# Altium integrated library TI Data Converters Digital to Analog Converter.IntLib: 1533 symbols (part 86 of 99)
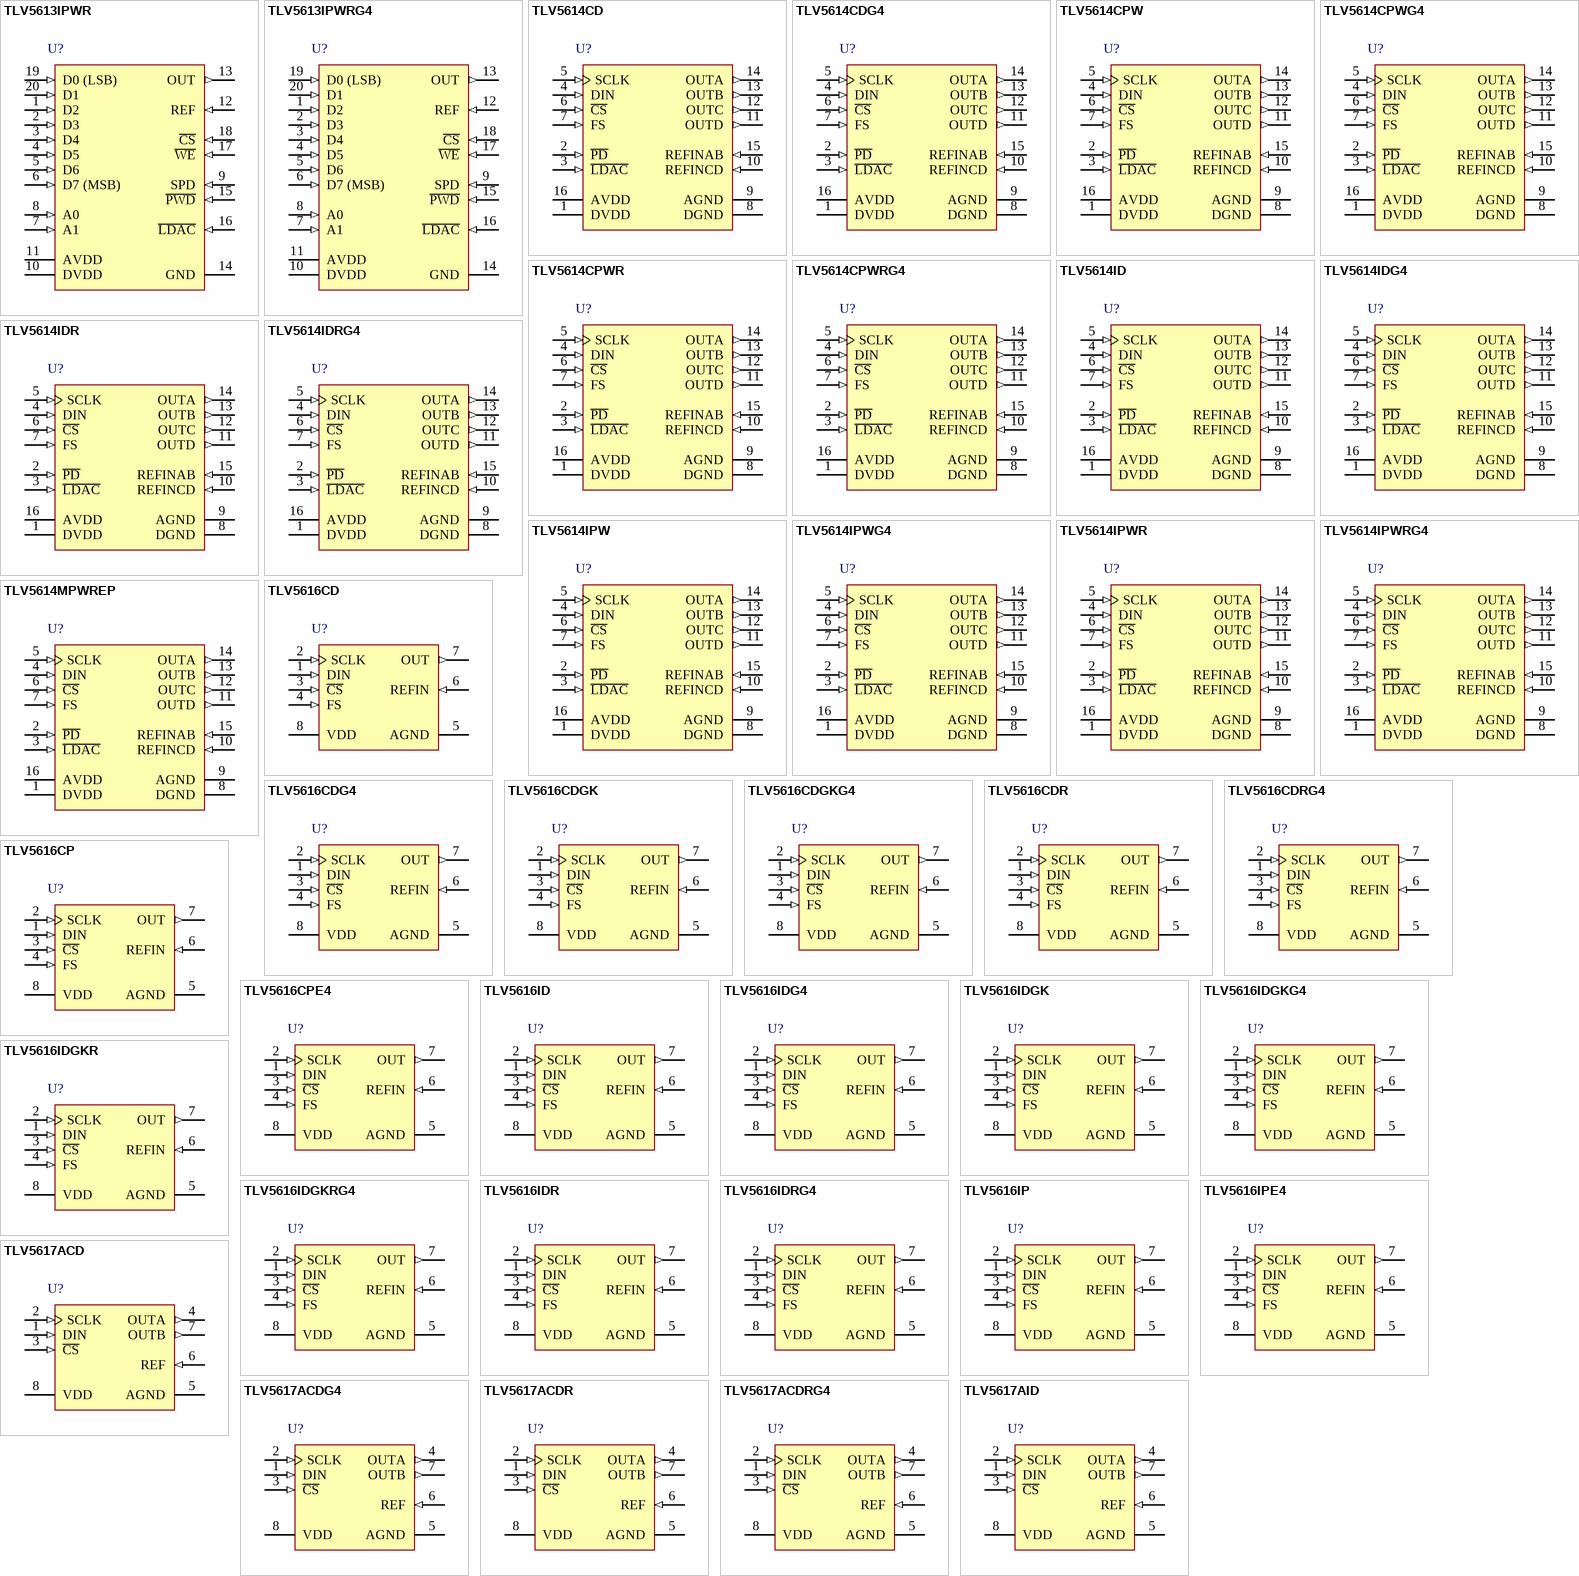
[diagram p158: symbols TLV5613IPWR to TLV5617AID]

## TLV5614CD
designator U?
12-Bit, 3 us Quad DAC, Serial Input, Programmable Settling Time, Low Power, Hardware or Software Power Down, 0 to 70 degC, 16-pin SOIC (D16), Green (RoHS & no Sb/Br); Manufacturer: Texas Instruments; PartNumber: TLV5614CD; DAC Channels: 4; DNL(Max)(+/-LSB): 1; Interface: Serial SPI; Power Consumption(Typ)(mW): 3.6; Resolution(Bits): 12; Settling Time(us): 3; SFDR(dB): 70; SNR(dB): 74; SubFamily: Precision DAC (=<10MSPS); DatasheetVersion: SLAS188B; PackageVersion: 4040047-6/M, 06/2011; PackageReference: D16; PackageDescription: 16-Pin Plastic Small Outline, Body 9.9 x 3.9 mm, Pitch 1.27 mm; Supplier 1: Digi-Key; Supplier Part Number 1: 296-2300-5-ND; Supplier 2: Farnell; Supplier Part Number 2: 8455627; Supplier 3: Newark; Supplier Part Number 3: 38K8478; Supplier 4: Newark; Supplier Part Number 4: 25C7295; Supplier 5: Mouser; Supplier Part Number 5: 595-TLV5614CD; Eco-Plan: Green (RoHS & no Sb/Br); INL(Max)(+/-LSB): 4; Mounting Technology: Surface Mount; Code_JEDEC: MS-012; ComponentLink1Description: Manufacturer URL; ComponentLink1URL: http://www.ti.com/; ComponentLink2Description: Datasheet; ComponentLink2URL: http://www.ti.com/general/docs/lit/getliterature.tsp?genericPartNumber=TLV5614&fileType=pdf; ComponentLink3Description: Package Specification; ComponentLink3URL: http://www.ti.com/litv/pdf/mpds178g
footprint TI-D16_N (SOIC, 16-Leads, Body 9.9x3.9mm, Pitch 1.27mm, IPC Medium Density)
footprint TI-D16_L (SOIC, 16-Leads, Body 9.9x3.9mm, Pitch 1.27mm, IPC High Density)
footprint TI-D16_M (SOIC, 16-Leads, Body 9.9x3.9mm, Pitch 1.27mm, IPC Low Density)
pins: 1 DVDD (power) "Digital supply", 2 ~{PD} (in) "Power-down pin. Powers down all DACs (overriding the individual power down settings), and all output stages. This terminal is active low.", 3 ~{LDAC} (in) "Load DAC. When the L\D\A\C\ signal is high, no DAC output updates occur when the input digital data is read into the serial interface. The DAC outputs are only updated when L\D\A\C\ is low.", 4 DIN (in) "Serial data input", 5 SCLK (in) "Serial clock inputinput", 6 ~{CS} (in) "Chip select. This terminal is active low.", 7 FS (in) "Frame sync input. The falling edge of the frame sync pulse indicates the start of a serial data frame shifted out to the TLV5614", 8 DGND (power) "Digital ground", 9 AGND (power) "Analog ground", 10 REFINCD (in) "Voltage reference input for DACs C and D.", 11 OUTD (out) "DACD output", 12 OUTC (out) "DACC output", 13 OUTB (out) "DACB output", 14 OUTA (out) "DACA output", 15 REFINAB (in) "Voltage reference input for DACs A and B.", 16 AVDD (power) "Analog supply"

## TLV5614CDG4
designator U?
12-Bit, 3 us Quad DAC, Serial Input, Programmable Settling Time, Low Power, Hardware or Software Power Down, 0 to 70 degC, 16-pin SOIC (D16), Green (RoHS & no Sb/Br); Manufacturer: Texas Instruments; PartNumber: TLV5614CDG4; DAC Channels: 4; DNL(Max)(+/-LSB): 1; Interface: Serial SPI; Power Consumption(Typ)(mW): 3.6; Resolution(Bits): 12; Settling Time(us): 3; SFDR(dB): 70; SNR(dB): 74; SubFamily: Precision DAC (=<10MSPS); DatasheetVersion: SLAS188B; PackageVersion: 4040047-6/M, 06/2011; PackageReference: D16; PackageDescription: 16-Pin Plastic Small Outline, Body 9.9 x 3.9 mm, Pitch 1.27 mm; Supplier 1: Digi-Key; Supplier Part Number 1: TLV5614CDG4-ND; Supplier 2: Mouser; Supplier Part Number 2: 595-TLV5614CDG4; Eco-Plan: Green (RoHS & no Sb/Br); INL(Max)(+/-LSB): 4; Mounting Technology: Surface Mount; Code_JEDEC: MS-012; ComponentLink1Description: Manufacturer URL; ComponentLink1URL: http://www.ti.com/; ComponentLink2Description: Datasheet; ComponentLink2URL: http://www.ti.com/general/docs/lit/getliterature.tsp?genericPartNumber=TLV5614&fileType=pdf; ComponentLink3Description: Package Specification; ComponentLink3URL: http://www.ti.com/litv/pdf/mpds178g
footprint TI-D16_N (SOIC, 16-Leads, Body 9.9x3.9mm, Pitch 1.27mm, IPC Medium Density)
footprint TI-D16_L (SOIC, 16-Leads, Body 9.9x3.9mm, Pitch 1.27mm, IPC High Density)
footprint TI-D16_M (SOIC, 16-Leads, Body 9.9x3.9mm, Pitch 1.27mm, IPC Low Density)
pins: 1 DVDD (power) "Digital supply", 2 ~{PD} (in) "Power-down pin. Powers down all DACs (overriding the individual power down settings), and all output stages. This terminal is active low.", 3 ~{LDAC} (in) "Load DAC. When the L\D\A\C\ signal is high, no DAC output updates occur when the input digital data is read into the serial interface. The DAC outputs are only updated when L\D\A\C\ is low.", 4 DIN (in) "Serial data input", 5 SCLK (in) "Serial clock inputinput", 6 ~{CS} (in) "Chip select. This terminal is active low.", 7 FS (in) "Frame sync input. The falling edge of the frame sync pulse indicates the start of a serial data frame shifted out to the TLV5614", 8 DGND (power) "Digital ground", 9 AGND (power) "Analog ground", 10 REFINCD (in) "Voltage reference input for DACs C and D.", 11 OUTD (out) "DACD output", 12 OUTC (out) "DACC output", 13 OUTB (out) "DACB output", 14 OUTA (out) "DACA output", 15 REFINAB (in) "Voltage reference input for DACs A and B.", 16 AVDD (power) "Analog supply"

## TLV5614CPW
designator U?
12-Bit, 3 us Quad DAC, Serial Input, Programmable Settling Time, Low Power, Hardware or Software Power Down, 0 to 70 degC, 16-pin SOP (PW16), Green (RoHS & no Sb/Br); Manufacturer: Texas Instruments; PartNumber: TLV5614CPW; DAC Channels: 4; DNL(Max)(+/-LSB): 1; Interface: Serial SPI; Power Consumption(Typ)(mW): 3.6; Resolution(Bits): 12; Settling Time(us): 3; SFDR(dB): 70; SNR(dB): 74; SubFamily: Precision DAC (=<10MSPS); DatasheetVersion: SLAS188B; PackageVersion: 4040064-4/G, 02/2011; PackageReference: PW16; PackageDescription: 16-Pin Plastic Small Outline, Body 5 x 4.4 mm, Pitch 0.65 mm; Supplier 1: Digi-Key; Supplier Part Number 1: 296-3040-5-ND; Supplier 2: Newark; Supplier Part Number 2: 76C8900; Supplier 3: Mouser; Supplier Part Number 3: 595-TLV5614CPW; Eco-Plan: Green (RoHS & no Sb/Br); INL(Max)(+/-LSB): 4; Mounting Technology: Surface Mount; Code_JEDEC: MO-153; ComponentLink1Description: Manufacturer URL; ComponentLink1URL: http://www.ti.com/; ComponentLink2Description: Datasheet; ComponentLink2URL: http://www.ti.com/general/docs/lit/getliterature.tsp?genericPartNumber=TLV5614&fileType=pdf; ComponentLink3Description: Package Specification; ComponentLink3URL: http://www.ti.com/lit/ml/mpds361/mpds361.pdf
footprint TI-PW16_N (SOP, 16-Leads, Body 5x4.4mm, Pitch 0.65mm, IPC Medium Density)
footprint TI-PW16_L (SOP, 16-Leads, Body 5x4.4mm, Pitch 0.65mm, IPC High Density)
footprint TI-PW16_M (SOP, 16-Leads, Body 5x4.4mm, Pitch 0.65mm, IPC Low Density)
pins: 1 DVDD (power) "Digital supply", 2 ~{PD} (in) "Power-down pin. Powers down all DACs (overriding the individual power down settings), and all output stages. This terminal is active low.", 3 ~{LDAC} (in) "Load DAC. When the L\D\A\C\ signal is high, no DAC output updates occur when the input digital data is read into the serial interface. The DAC outputs are only updated when L\D\A\C\ is low.", 4 DIN (in) "Serial data input", 5 SCLK (in) "Serial clock inputinput", 6 ~{CS} (in) "Chip select. This terminal is active low.", 7 FS (in) "Frame sync input. The falling edge of the frame sync pulse indicates the start of a serial data frame shifted out to the TLV5614", 8 DGND (power) "Digital ground", 9 AGND (power) "Analog ground", 10 REFINCD (in) "Voltage reference input for DACs C and D.", 11 OUTD (out) "DACD output", 12 OUTC (out) "DACC output", 13 OUTB (out) "DACB output", 14 OUTA (out) "DACA output", 15 REFINAB (in) "Voltage reference input for DACs A and B.", 16 AVDD (power) "Analog supply"

## TLV5614CPWG4
designator U?
12-Bit, 3 us Quad DAC, Serial Input, Programmable Settling Time, Low Power, Hardware or Software Power Down, 0 to 70 degC, 16-pin SOP (PW16), Green (RoHS & no Sb/Br); Manufacturer: Texas Instruments; PartNumber: TLV5614CPWG4; DAC Channels: 4; DNL(Max)(+/-LSB): 1; Interface: Serial SPI; Power Consumption(Typ)(mW): 3.6; Resolution(Bits): 12; Settling Time(us): 3; SFDR(dB): 70; SNR(dB): 74; SubFamily: Precision DAC (=<10MSPS); DatasheetVersion: SLAS188B; PackageVersion: 4040064-4/G, 02/2011; PackageReference: PW16; PackageDescription: 16-Pin Plastic Small Outline, Body 5 x 4.4 mm, Pitch 0.65 mm; Supplier 1: Digi-Key; Supplier Part Number 1: TLV5614CPWG4-ND; Supplier 2: Mouser; Supplier Part Number 2: 595-TLV5614CPWG4; Eco-Plan: Green (RoHS & no Sb/Br); INL(Max)(+/-LSB): 4; Mounting Technology: Surface Mount; Code_JEDEC: MO-153; ComponentLink1Description: Manufacturer URL; ComponentLink1URL: http://www.ti.com/; ComponentLink2Description: Datasheet; ComponentLink2URL: http://www.ti.com/general/docs/lit/getliterature.tsp?genericPartNumber=TLV5614&fileType=pdf; ComponentLink3Description: Package Specification; ComponentLink3URL: http://www.ti.com/lit/ml/mpds361/mpds361.pdf
footprint TI-PW16_N (SOP, 16-Leads, Body 5x4.4mm, Pitch 0.65mm, IPC Medium Density)
footprint TI-PW16_L (SOP, 16-Leads, Body 5x4.4mm, Pitch 0.65mm, IPC High Density)
footprint TI-PW16_M (SOP, 16-Leads, Body 5x4.4mm, Pitch 0.65mm, IPC Low Density)
pins: 1 DVDD (power) "Digital supply", 2 ~{PD} (in) "Power-down pin. Powers down all DACs (overriding the individual power down settings), and all output stages. This terminal is active low.", 3 ~{LDAC} (in) "Load DAC. When the L\D\A\C\ signal is high, no DAC output updates occur when the input digital data is read into the serial interface. The DAC outputs are only updated when L\D\A\C\ is low.", 4 DIN (in) "Serial data input", 5 SCLK (in) "Serial clock inputinput", 6 ~{CS} (in) "Chip select. This terminal is active low.", 7 FS (in) "Frame sync input. The falling edge of the frame sync pulse indicates the start of a serial data frame shifted out to the TLV5614", 8 DGND (power) "Digital ground", 9 AGND (power) "Analog ground", 10 REFINCD (in) "Voltage reference input for DACs C and D.", 11 OUTD (out) "DACD output", 12 OUTC (out) "DACC output", 13 OUTB (out) "DACB output", 14 OUTA (out) "DACA output", 15 REFINAB (in) "Voltage reference input for DACs A and B.", 16 AVDD (power) "Analog supply"

## TLV5614CPWR
designator U?
12-Bit, 3 us Quad DAC, Serial Input, Programmable Settling Time, Low Power, Hardware or Software Power Down, 0 to 70 degC, 16-pin SOP (PW16), Green (RoHS & no Sb/Br); Manufacturer: Texas Instruments; PartNumber: TLV5614CPWR; DAC Channels: 4; DNL(Max)(+/-LSB): 1; Interface: Serial SPI; Power Consumption(Typ)(mW): 3.6; Resolution(Bits): 12; Settling Time(us): 3; SFDR(dB): 70; SNR(dB): 74; SubFamily: Precision DAC (=<10MSPS); DatasheetVersion: SLAS188B; PackageVersion: 4040064-4/G, 02/2011; PackageReference: PW16; PackageDescription: 16-Pin Plastic Small Outline, Body 5 x 4.4 mm, Pitch 0.65 mm; Supplier 1: Digi-Key; Supplier Part Number 1: TLV5614CPWR-ND; Supplier 2: Mouser; Supplier Part Number 2: 595-TLV5614CPWR; Eco-Plan: Green (RoHS & no Sb/Br); INL(Max)(+/-LSB): 4; Mounting Technology: Surface Mount; Code_JEDEC: MO-153; ComponentLink1Description: Manufacturer URL; ComponentLink1URL: http://www.ti.com/; ComponentLink2Description: Datasheet; ComponentLink2URL: http://www.ti.com/general/docs/lit/getliterature.tsp?genericPartNumber=TLV5614&fileType=pdf; ComponentLink3Description: Package Specification; ComponentLink3URL: http://www.ti.com/lit/ml/mpds361/mpds361.pdf
footprint TI-PW16_N (SOP, 16-Leads, Body 5x4.4mm, Pitch 0.65mm, IPC Medium Density)
footprint TI-PW16_L (SOP, 16-Leads, Body 5x4.4mm, Pitch 0.65mm, IPC High Density)
footprint TI-PW16_M (SOP, 16-Leads, Body 5x4.4mm, Pitch 0.65mm, IPC Low Density)
pins: 1 DVDD (power) "Digital supply", 2 ~{PD} (in) "Power-down pin. Powers down all DACs (overriding the individual power down settings), and all output stages. This terminal is active low.", 3 ~{LDAC} (in) "Load DAC. When the L\D\A\C\ signal is high, no DAC output updates occur when the input digital data is read into the serial interface. The DAC outputs are only updated when L\D\A\C\ is low.", 4 DIN (in) "Serial data input", 5 SCLK (in) "Serial clock inputinput", 6 ~{CS} (in) "Chip select. This terminal is active low.", 7 FS (in) "Frame sync input. The falling edge of the frame sync pulse indicates the start of a serial data frame shifted out to the TLV5614", 8 DGND (power) "Digital ground", 9 AGND (power) "Analog ground", 10 REFINCD (in) "Voltage reference input for DACs C and D.", 11 OUTD (out) "DACD output", 12 OUTC (out) "DACC output", 13 OUTB (out) "DACB output", 14 OUTA (out) "DACA output", 15 REFINAB (in) "Voltage reference input for DACs A and B.", 16 AVDD (power) "Analog supply"

## TLV5614CPWRG4
designator U?
12-Bit, 3 us Quad DAC, Serial Input, Programmable Settling Time, Low Power, Hardware or Software Power Down, 0 to 70 degC, 16-pin SOP (PW16), Green (RoHS & no Sb/Br); Manufacturer: Texas Instruments; PartNumber: TLV5614CPWRG4; DAC Channels: 4; DNL(Max)(+/-LSB): 1; Interface: Serial SPI; Power Consumption(Typ)(mW): 3.6; Resolution(Bits): 12; Settling Time(us): 3; SFDR(dB): 70; SNR(dB): 74; SubFamily: Precision DAC (=<10MSPS); DatasheetVersion: SLAS188B; PackageVersion: 4040064-4/G, 02/2011; PackageReference: PW16; PackageDescription: 16-Pin Plastic Small Outline, Body 5 x 4.4 mm, Pitch 0.65 mm; Supplier 1: Digi-Key; Supplier Part Number 1: TLV5614CPWRG4-ND; Supplier 2: Mouser; Supplier Part Number 2: 595-TLV5614CPWRG4; Eco-Plan: Green (RoHS & no Sb/Br); INL(Max)(+/-LSB): 4; Mounting Technology: Surface Mount; Code_JEDEC: MO-153; ComponentLink1Description: Manufacturer URL; ComponentLink1URL: http://www.ti.com/; ComponentLink2Description: Datasheet; ComponentLink2URL: http://www.ti.com/general/docs/lit/getliterature.tsp?genericPartNumber=TLV5614&fileType=pdf; ComponentLink3Description: Package Specification; ComponentLink3URL: http://www.ti.com/lit/ml/mpds361/mpds361.pdf
footprint TI-PW16_N (SOP, 16-Leads, Body 5x4.4mm, Pitch 0.65mm, IPC Medium Density)
footprint TI-PW16_L (SOP, 16-Leads, Body 5x4.4mm, Pitch 0.65mm, IPC High Density)
footprint TI-PW16_M (SOP, 16-Leads, Body 5x4.4mm, Pitch 0.65mm, IPC Low Density)
pins: 1 DVDD (power) "Digital supply", 2 ~{PD} (in) "Power-down pin. Powers down all DACs (overriding the individual power down settings), and all output stages. This terminal is active low.", 3 ~{LDAC} (in) "Load DAC. When the L\D\A\C\ signal is high, no DAC output updates occur when the input digital data is read into the serial interface. The DAC outputs are only updated when L\D\A\C\ is low.", 4 DIN (in) "Serial data input", 5 SCLK (in) "Serial clock inputinput", 6 ~{CS} (in) "Chip select. This terminal is active low.", 7 FS (in) "Frame sync input. The falling edge of the frame sync pulse indicates the start of a serial data frame shifted out to the TLV5614", 8 DGND (power) "Digital ground", 9 AGND (power) "Analog ground", 10 REFINCD (in) "Voltage reference input for DACs C and D.", 11 OUTD (out) "DACD output", 12 OUTC (out) "DACC output", 13 OUTB (out) "DACB output", 14 OUTA (out) "DACA output", 15 REFINAB (in) "Voltage reference input for DACs A and B.", 16 AVDD (power) "Analog supply"

## TLV5614ID
designator U?
12-Bit, 3 us Quad DAC, Serial Input, Programmable Settling Time, Low Power, Hardware or Software Power Down, -40 to 85 degC, 16-pin SOIC (D16), Green (RoHS & no Sb/Br); Manufacturer: Texas Instruments; PartNumber: TLV5614ID; DAC Channels: 4; DNL(Max)(+/-LSB): 1; Interface: Serial SPI; Power Consumption(Typ)(mW): 3.6; Resolution(Bits): 12; Settling Time(us): 3; SFDR(dB): 70; SNR(dB): 74; SubFamily: Precision DAC (=<10MSPS); DatasheetVersion: SLAS188B; PackageVersion: 4040047-6/M, 06/2011; PackageReference: D16; PackageDescription: 16-Pin Plastic Small Outline, Body 9.9 x 3.9 mm, Pitch 1.27 mm; Supplier 1: Digi-Key; Supplier Part Number 1: 296-1921-5-ND; Supplier 2: Newark; Supplier Part Number 2: 96B3617; Supplier 3: Mouser; Supplier Part Number 3: 595-TLV5614ID; Eco-Plan: Green (RoHS & no Sb/Br); INL(Max)(+/-LSB): 4; Mounting Technology: Surface Mount; Code_JEDEC: MS-012; ComponentLink1Description: Manufacturer URL; ComponentLink1URL: http://www.ti.com/; ComponentLink2Description: Datasheet; ComponentLink2URL: http://www.ti.com/general/docs/lit/getliterature.tsp?genericPartNumber=TLV5614&fileType=pdf; ComponentLink3Description: Package Specification; ComponentLink3URL: http://www.ti.com/litv/pdf/mpds178g
footprint TI-D16_N (SOIC, 16-Leads, Body 9.9x3.9mm, Pitch 1.27mm, IPC Medium Density)
footprint TI-D16_L (SOIC, 16-Leads, Body 9.9x3.9mm, Pitch 1.27mm, IPC High Density)
footprint TI-D16_M (SOIC, 16-Leads, Body 9.9x3.9mm, Pitch 1.27mm, IPC Low Density)
pins: 1 DVDD (power) "Digital supply", 2 ~{PD} (in) "Power-down pin. Powers down all DACs (overriding the individual power down settings), and all output stages. This terminal is active low.", 3 ~{LDAC} (in) "Load DAC. When the L\D\A\C\ signal is high, no DAC output updates occur when the input digital data is read into the serial interface. The DAC outputs are only updated when L\D\A\C\ is low.", 4 DIN (in) "Serial data input", 5 SCLK (in) "Serial clock inputinput", 6 ~{CS} (in) "Chip select. This terminal is active low.", 7 FS (in) "Frame sync input. The falling edge of the frame sync pulse indicates the start of a serial data frame shifted out to the TLV5614", 8 DGND (power) "Digital ground", 9 AGND (power) "Analog ground", 10 REFINCD (in) "Voltage reference input for DACs C and D.", 11 OUTD (out) "DACD output", 12 OUTC (out) "DACC output", 13 OUTB (out) "DACB output", 14 OUTA (out) "DACA output", 15 REFINAB (in) "Voltage reference input for DACs A and B.", 16 AVDD (power) "Analog supply"

## TLV5614IDG4
designator U?
12-Bit, 3 us Quad DAC, Serial Input, Programmable Settling Time, Low Power, Hardware or Software Power Down, -40 to 85 degC, 16-pin SOIC (D16), Green (RoHS & no Sb/Br); Manufacturer: Texas Instruments; PartNumber: TLV5614IDG4; DAC Channels: 4; DNL(Max)(+/-LSB): 1; Interface: Serial SPI; Power Consumption(Typ)(mW): 3.6; Resolution(Bits): 12; Settling Time(us): 3; SFDR(dB): 70; SNR(dB): 74; SubFamily: Precision DAC (=<10MSPS); DatasheetVersion: SLAS188B; PackageVersion: 4040047-6/M, 06/2011; PackageReference: D16; PackageDescription: 16-Pin Plastic Small Outline, Body 9.9 x 3.9 mm, Pitch 1.27 mm; Supplier 1: Digi-Key; Supplier Part Number 1: TLV5614IDG4-ND; Supplier 2: Mouser; Supplier Part Number 2: 595-TLV5614IDG4; Eco-Plan: Green (RoHS & no Sb/Br); INL(Max)(+/-LSB): 4; Mounting Technology: Surface Mount; Code_JEDEC: MS-012; ComponentLink1Description: Manufacturer URL; ComponentLink1URL: http://www.ti.com/; ComponentLink2Description: Datasheet; ComponentLink2URL: http://www.ti.com/general/docs/lit/getliterature.tsp?genericPartNumber=TLV5614&fileType=pdf; ComponentLink3Description: Package Specification; ComponentLink3URL: http://www.ti.com/litv/pdf/mpds178g
footprint TI-D16_N (SOIC, 16-Leads, Body 9.9x3.9mm, Pitch 1.27mm, IPC Medium Density)
footprint TI-D16_L (SOIC, 16-Leads, Body 9.9x3.9mm, Pitch 1.27mm, IPC High Density)
footprint TI-D16_M (SOIC, 16-Leads, Body 9.9x3.9mm, Pitch 1.27mm, IPC Low Density)
pins: 1 DVDD (power) "Digital supply", 2 ~{PD} (in) "Power-down pin. Powers down all DACs (overriding the individual power down settings), and all output stages. This terminal is active low.", 3 ~{LDAC} (in) "Load DAC. When the L\D\A\C\ signal is high, no DAC output updates occur when the input digital data is read into the serial interface. The DAC outputs are only updated when L\D\A\C\ is low.", 4 DIN (in) "Serial data input", 5 SCLK (in) "Serial clock inputinput", 6 ~{CS} (in) "Chip select. This terminal is active low.", 7 FS (in) "Frame sync input. The falling edge of the frame sync pulse indicates the start of a serial data frame shifted out to the TLV5614", 8 DGND (power) "Digital ground", 9 AGND (power) "Analog ground", 10 REFINCD (in) "Voltage reference input for DACs C and D.", 11 OUTD (out) "DACD output", 12 OUTC (out) "DACC output", 13 OUTB (out) "DACB output", 14 OUTA (out) "DACA output", 15 REFINAB (in) "Voltage reference input for DACs A and B.", 16 AVDD (power) "Analog supply"

## TLV5614IDR
designator U?
12-Bit, 3 us Quad DAC, Serial Input, Programmable Settling Time, Low Power, Hardware or Software Power Down, -40 to 85 degC, 16-pin SOIC (D16), Green (RoHS & no Sb/Br); Manufacturer: Texas Instruments; PartNumber: TLV5614IDR; DAC Channels: 4; DNL(Max)(+/-LSB): 1; Interface: Serial SPI; Power Consumption(Typ)(mW): 3.6; Resolution(Bits): 12; Settling Time(us): 3; SFDR(dB): 70; SNR(dB): 74; SubFamily: Precision DAC (=<10MSPS); DatasheetVersion: SLAS188B; PackageVersion: 4040047-6/M, 06/2011; PackageReference: D16; PackageDescription: 16-Pin Plastic Small Outline, Body 9.9 x 3.9 mm, Pitch 1.27 mm; Supplier 1: Digi-Key; Supplier Part Number 1: TLV5614IDR-ND; Supplier 2: Mouser; Supplier Part Number 2: 595-TLV5614IDR; Eco-Plan: Green (RoHS & no Sb/Br); INL(Max)(+/-LSB): 4; Mounting Technology: Surface Mount; Code_JEDEC: MS-012; ComponentLink1Description: Manufacturer URL; ComponentLink1URL: http://www.ti.com/; ComponentLink2Description: Datasheet; ComponentLink2URL: http://www.ti.com/general/docs/lit/getliterature.tsp?genericPartNumber=TLV5614&fileType=pdf; ComponentLink3Description: Package Specification; ComponentLink3URL: http://www.ti.com/litv/pdf/mpds178g
footprint TI-D16_N (SOIC, 16-Leads, Body 9.9x3.9mm, Pitch 1.27mm, IPC Medium Density)
footprint TI-D16_L (SOIC, 16-Leads, Body 9.9x3.9mm, Pitch 1.27mm, IPC High Density)
footprint TI-D16_M (SOIC, 16-Leads, Body 9.9x3.9mm, Pitch 1.27mm, IPC Low Density)
pins: 1 DVDD (power) "Digital supply", 2 ~{PD} (in) "Power-down pin. Powers down all DACs (overriding the individual power down settings), and all output stages. This terminal is active low.", 3 ~{LDAC} (in) "Load DAC. When the L\D\A\C\ signal is high, no DAC output updates occur when the input digital data is read into the serial interface. The DAC outputs are only updated when L\D\A\C\ is low.", 4 DIN (in) "Serial data input", 5 SCLK (in) "Serial clock inputinput", 6 ~{CS} (in) "Chip select. This terminal is active low.", 7 FS (in) "Frame sync input. The falling edge of the frame sync pulse indicates the start of a serial data frame shifted out to the TLV5614", 8 DGND (power) "Digital ground", 9 AGND (power) "Analog ground", 10 REFINCD (in) "Voltage reference input for DACs C and D.", 11 OUTD (out) "DACD output", 12 OUTC (out) "DACC output", 13 OUTB (out) "DACB output", 14 OUTA (out) "DACA output", 15 REFINAB (in) "Voltage reference input for DACs A and B.", 16 AVDD (power) "Analog supply"

## TLV5614IDRG4
designator U?
12-Bit, 3 us Quad DAC, Serial Input, Programmable Settling Time, Low Power, Hardware or Software Power Down, -40 to 85 degC, 16-pin SOIC (D16), Green (RoHS & no Sb/Br); Manufacturer: Texas Instruments; PartNumber: TLV5614IDRG4; DAC Channels: 4; DNL(Max)(+/-LSB): 1; Interface: Serial SPI; Power Consumption(Typ)(mW): 3.6; Resolution(Bits): 12; Settling Time(us): 3; SFDR(dB): 70; SNR(dB): 74; SubFamily: Precision DAC (=<10MSPS); DatasheetVersion: SLAS188B; PackageVersion: 4040047-6/M, 06/2011; PackageReference: D16; PackageDescription: 16-Pin Plastic Small Outline, Body 9.9 x 3.9 mm, Pitch 1.27 mm; Supplier 1: Digi-Key; Supplier Part Number 1: TLV5614IDRG4-ND; Supplier 2: Mouser; Supplier Part Number 2: 595-TLV5614IDRG4; Eco-Plan: Green (RoHS & no Sb/Br); INL(Max)(+/-LSB): 4; Mounting Technology: Surface Mount; Code_JEDEC: MS-012; ComponentLink1Description: Manufacturer URL; ComponentLink1URL: http://www.ti.com/; ComponentLink2Description: Datasheet; ComponentLink2URL: http://www.ti.com/general/docs/lit/getliterature.tsp?genericPartNumber=TLV5614&fileType=pdf; ComponentLink3Description: Package Specification; ComponentLink3URL: http://www.ti.com/litv/pdf/mpds178g
footprint TI-D16_N (SOIC, 16-Leads, Body 9.9x3.9mm, Pitch 1.27mm, IPC Medium Density)
footprint TI-D16_L (SOIC, 16-Leads, Body 9.9x3.9mm, Pitch 1.27mm, IPC High Density)
footprint TI-D16_M (SOIC, 16-Leads, Body 9.9x3.9mm, Pitch 1.27mm, IPC Low Density)
pins: 1 DVDD (power) "Digital supply", 2 ~{PD} (in) "Power-down pin. Powers down all DACs (overriding the individual power down settings), and all output stages. This terminal is active low.", 3 ~{LDAC} (in) "Load DAC. When the L\D\A\C\ signal is high, no DAC output updates occur when the input digital data is read into the serial interface. The DAC outputs are only updated when L\D\A\C\ is low.", 4 DIN (in) "Serial data input", 5 SCLK (in) "Serial clock inputinput", 6 ~{CS} (in) "Chip select. This terminal is active low.", 7 FS (in) "Frame sync input. The falling edge of the frame sync pulse indicates the start of a serial data frame shifted out to the TLV5614", 8 DGND (power) "Digital ground", 9 AGND (power) "Analog ground", 10 REFINCD (in) "Voltage reference input for DACs C and D.", 11 OUTD (out) "DACD output", 12 OUTC (out) "DACC output", 13 OUTB (out) "DACB output", 14 OUTA (out) "DACA output", 15 REFINAB (in) "Voltage reference input for DACs A and B.", 16 AVDD (power) "Analog supply"

## TLV5614IPW
designator U?
12-Bit, 3 us Quad DAC, Serial Input, Programmable Settling Time, Low Power, Hardware or Software Power Down, -40 to 85 degC, 16-pin SOP (PW16), Green (RoHS & no Sb/Br); Manufacturer: Texas Instruments; PartNumber: TLV5614IPW; DAC Channels: 4; DNL(Max)(+/-LSB): 1; Interface: Serial SPI; Power Consumption(Typ)(mW): 3.6; Resolution(Bits): 12; Settling Time(us): 3; SFDR(dB): 70; SNR(dB): 74; SubFamily: Precision DAC (=<10MSPS); DatasheetVersion: SLAS188B; PackageVersion: 4040064-4/G, 02/2011; PackageReference: PW16; PackageDescription: 16-Pin Plastic Small Outline, Body 5 x 4.4 mm, Pitch 0.65 mm; Supplier 1: Digi-Key; Supplier Part Number 1: 296-1922-5-ND; Supplier 2: Farnell; Supplier Part Number 2: 4613806; Supplier 3: Newark; Supplier Part Number 3: 96B3618; Supplier 4: Mouser; Supplier Part Number 4: 595-TLV5614IPW; Eco-Plan: Green (RoHS & no Sb/Br); INL(Max)(+/-LSB): 4; Mounting Technology: Surface Mount; Code_JEDEC: MO-153; ComponentLink1Description: Manufacturer URL; ComponentLink1URL: http://www.ti.com/; ComponentLink2Description: Datasheet; ComponentLink2URL: http://www.ti.com/general/docs/lit/getliterature.tsp?genericPartNumber=TLV5614&fileType=pdf; ComponentLink3Description: Package Specification; ComponentLink3URL: http://www.ti.com/lit/ml/mpds361/mpds361.pdf
footprint TI-PW16_N (SOP, 16-Leads, Body 5x4.4mm, Pitch 0.65mm, IPC Medium Density)
footprint TI-PW16_L (SOP, 16-Leads, Body 5x4.4mm, Pitch 0.65mm, IPC High Density)
footprint TI-PW16_M (SOP, 16-Leads, Body 5x4.4mm, Pitch 0.65mm, IPC Low Density)
pins: 1 DVDD (power) "Digital supply", 2 ~{PD} (in) "Power-down pin. Powers down all DACs (overriding the individual power down settings), and all output stages. This terminal is active low.", 3 ~{LDAC} (in) "Load DAC. When the L\D\A\C\ signal is high, no DAC output updates occur when the input digital data is read into the serial interface. The DAC outputs are only updated when L\D\A\C\ is low.", 4 DIN (in) "Serial data input", 5 SCLK (in) "Serial clock inputinput", 6 ~{CS} (in) "Chip select. This terminal is active low.", 7 FS (in) "Frame sync input. The falling edge of the frame sync pulse indicates the start of a serial data frame shifted out to the TLV5614", 8 DGND (power) "Digital ground", 9 AGND (power) "Analog ground", 10 REFINCD (in) "Voltage reference input for DACs C and D.", 11 OUTD (out) "DACD output", 12 OUTC (out) "DACC output", 13 OUTB (out) "DACB output", 14 OUTA (out) "DACA output", 15 REFINAB (in) "Voltage reference input for DACs A and B.", 16 AVDD (power) "Analog supply"

## TLV5614IPWG4
designator U?
12-Bit, 3 us Quad DAC, Serial Input, Programmable Settling Time, Low Power, Hardware or Software Power Down, -40 to 85 degC, 16-pin SOP (PW16), Green (RoHS & no Sb/Br); Manufacturer: Texas Instruments; PartNumber: TLV5614IPWG4; DAC Channels: 4; DNL(Max)(+/-LSB): 1; Interface: Serial SPI; Power Consumption(Typ)(mW): 3.6; Resolution(Bits): 12; Settling Time(us): 3; SFDR(dB): 70; SNR(dB): 74; SubFamily: Precision DAC (=<10MSPS); DatasheetVersion: SLAS188B; PackageVersion: 4040064-4/G, 02/2011; PackageReference: PW16; PackageDescription: 16-Pin Plastic Small Outline, Body 5 x 4.4 mm, Pitch 0.65 mm; Supplier 1: Digi-Key; Supplier Part Number 1: TLV5614IPWG4-ND; Supplier 2: Newark; Supplier Part Number 2: 61K1816; Supplier 3: Mouser; Supplier Part Number 3: 595-TLV5614IPWG4; Eco-Plan: Green (RoHS & no Sb/Br); INL(Max)(+/-LSB): 4; Mounting Technology: Surface Mount; Code_JEDEC: MO-153; ComponentLink1Description: Manufacturer URL; ComponentLink1URL: http://www.ti.com/; ComponentLink2Description: Datasheet; ComponentLink2URL: http://www.ti.com/general/docs/lit/getliterature.tsp?genericPartNumber=TLV5614&fileType=pdf; ComponentLink3Description: Package Specification; ComponentLink3URL: http://www.ti.com/lit/ml/mpds361/mpds361.pdf
footprint TI-PW16_N (SOP, 16-Leads, Body 5x4.4mm, Pitch 0.65mm, IPC Medium Density)
footprint TI-PW16_L (SOP, 16-Leads, Body 5x4.4mm, Pitch 0.65mm, IPC High Density)
footprint TI-PW16_M (SOP, 16-Leads, Body 5x4.4mm, Pitch 0.65mm, IPC Low Density)
pins: 1 DVDD (power) "Digital supply", 2 ~{PD} (in) "Power-down pin. Powers down all DACs (overriding the individual power down settings), and all output stages. This terminal is active low.", 3 ~{LDAC} (in) "Load DAC. When the L\D\A\C\ signal is high, no DAC output updates occur when the input digital data is read into the serial interface. The DAC outputs are only updated when L\D\A\C\ is low.", 4 DIN (in) "Serial data input", 5 SCLK (in) "Serial clock inputinput", 6 ~{CS} (in) "Chip select. This terminal is active low.", 7 FS (in) "Frame sync input. The falling edge of the frame sync pulse indicates the start of a serial data frame shifted out to the TLV5614", 8 DGND (power) "Digital ground", 9 AGND (power) "Analog ground", 10 REFINCD (in) "Voltage reference input for DACs C and D.", 11 OUTD (out) "DACD output", 12 OUTC (out) "DACC output", 13 OUTB (out) "DACB output", 14 OUTA (out) "DACA output", 15 REFINAB (in) "Voltage reference input for DACs A and B.", 16 AVDD (power) "Analog supply"

## TLV5614IPWR
designator U?
12-Bit, 3 us Quad DAC, Serial Input, Programmable Settling Time, Low Power, Hardware or Software Power Down, -40 to 85 degC, 16-pin SOP (PW16), Green (RoHS & no Sb/Br); Manufacturer: Texas Instruments; PartNumber: TLV5614IPWR; DAC Channels: 4; DNL(Max)(+/-LSB): 1; Interface: Serial SPI; Power Consumption(Typ)(mW): 3.6; Resolution(Bits): 12; Settling Time(us): 3; SFDR(dB): 70; SNR(dB): 74; SubFamily: Precision DAC (=<10MSPS); DatasheetVersion: SLAS188B; PackageVersion: 4040064-4/G, 02/2011; PackageReference: PW16; PackageDescription: 16-Pin Plastic Small Outline, Body 5 x 4.4 mm, Pitch 0.65 mm; Supplier 1: Digi-Key; Supplier Part Number 1: TLV5614IPWR-ND; Supplier 2: Newark; Supplier Part Number 2: 76C8903; Supplier 3: Mouser; Supplier Part Number 3: 595-TLV5614IPWR; Eco-Plan: Green (RoHS & no Sb/Br); INL(Max)(+/-LSB): 4; Mounting Technology: Surface Mount; Code_JEDEC: MO-153; ComponentLink1Description: Manufacturer URL; ComponentLink1URL: http://www.ti.com/; ComponentLink2Description: Datasheet; ComponentLink2URL: http://www.ti.com/general/docs/lit/getliterature.tsp?genericPartNumber=TLV5614&fileType=pdf; ComponentLink3Description: Package Specification; ComponentLink3URL: http://www.ti.com/lit/ml/mpds361/mpds361.pdf
footprint TI-PW16_N (SOP, 16-Leads, Body 5x4.4mm, Pitch 0.65mm, IPC Medium Density)
footprint TI-PW16_L (SOP, 16-Leads, Body 5x4.4mm, Pitch 0.65mm, IPC High Density)
footprint TI-PW16_M (SOP, 16-Leads, Body 5x4.4mm, Pitch 0.65mm, IPC Low Density)
pins: 1 DVDD (power) "Digital supply", 2 ~{PD} (in) "Power-down pin. Powers down all DACs (overriding the individual power down settings), and all output stages. This terminal is active low.", 3 ~{LDAC} (in) "Load DAC. When the L\D\A\C\ signal is high, no DAC output updates occur when the input digital data is read into the serial interface. The DAC outputs are only updated when L\D\A\C\ is low.", 4 DIN (in) "Serial data input", 5 SCLK (in) "Serial clock inputinput", 6 ~{CS} (in) "Chip select. This terminal is active low.", 7 FS (in) "Frame sync input. The falling edge of the frame sync pulse indicates the start of a serial data frame shifted out to the TLV5614", 8 DGND (power) "Digital ground", 9 AGND (power) "Analog ground", 10 REFINCD (in) "Voltage reference input for DACs C and D.", 11 OUTD (out) "DACD output", 12 OUTC (out) "DACC output", 13 OUTB (out) "DACB output", 14 OUTA (out) "DACA output", 15 REFINAB (in) "Voltage reference input for DACs A and B.", 16 AVDD (power) "Analog supply"

## TLV5614IPWRG4
designator U?
12-Bit, 3 us Quad DAC, Serial Input, Programmable Settling Time, Low Power, Hardware or Software Power Down, -40 to 85 degC, 16-pin SOP (PW16), Green (RoHS & no Sb/Br); Manufacturer: Texas Instruments; PartNumber: TLV5614IPWRG4; DAC Channels: 4; DNL(Max)(+/-LSB): 1; Interface: Serial SPI; Power Consumption(Typ)(mW): 3.6; Resolution(Bits): 12; Settling Time(us): 3; SFDR(dB): 70; SNR(dB): 74; SubFamily: Precision DAC (=<10MSPS); DatasheetVersion: SLAS188B; PackageVersion: 4040064-4/G, 02/2011; PackageReference: PW16; PackageDescription: 16-Pin Plastic Small Outline, Body 5 x 4.4 mm, Pitch 0.65 mm; Supplier 1: Digi-Key; Supplier Part Number 1: TLV5614IPWRG4-ND; Supplier 2: Mouser; Supplier Part Number 2: 595-TLV5614IPWRG4; Eco-Plan: Green (RoHS & no Sb/Br); INL(Max)(+/-LSB): 4; Mounting Technology: Surface Mount; Code_JEDEC: MO-153; ComponentLink1Description: Manufacturer URL; ComponentLink1URL: http://www.ti.com/; ComponentLink2Description: Datasheet; ComponentLink2URL: http://www.ti.com/general/docs/lit/getliterature.tsp?genericPartNumber=TLV5614&fileType=pdf; ComponentLink3Description: Package Specification; ComponentLink3URL: http://www.ti.com/lit/ml/mpds361/mpds361.pdf
footprint TI-PW16_N (SOP, 16-Leads, Body 5x4.4mm, Pitch 0.65mm, IPC Medium Density)
footprint TI-PW16_L (SOP, 16-Leads, Body 5x4.4mm, Pitch 0.65mm, IPC High Density)
footprint TI-PW16_M (SOP, 16-Leads, Body 5x4.4mm, Pitch 0.65mm, IPC Low Density)
pins: 1 DVDD (power) "Digital supply", 2 ~{PD} (in) "Power-down pin. Powers down all DACs (overriding the individual power down settings), and all output stages. This terminal is active low.", 3 ~{LDAC} (in) "Load DAC. When the L\D\A\C\ signal is high, no DAC output updates occur when the input digital data is read into the serial interface. The DAC outputs are only updated when L\D\A\C\ is low.", 4 DIN (in) "Serial data input", 5 SCLK (in) "Serial clock inputinput", 6 ~{CS} (in) "Chip select. This terminal is active low.", 7 FS (in) "Frame sync input. The falling edge of the frame sync pulse indicates the start of a serial data frame shifted out to the TLV5614", 8 DGND (power) "Digital ground", 9 AGND (power) "Analog ground", 10 REFINCD (in) "Voltage reference input for DACs C and D.", 11 OUTD (out) "DACD output", 12 OUTC (out) "DACC output", 13 OUTB (out) "DACB output", 14 OUTA (out) "DACA output", 15 REFINAB (in) "Voltage reference input for DACs A and B.", 16 AVDD (power) "Analog supply"

## TLV5614MPWREP
designator U?
Enhanced Product Quad DAC, Serial Input, Programmable Settling Time, Low-Power, Hardware or Software Power Down, -55 to 125 degC, 16-pin SOP (PW16), Green (RoHS & no Sb/Br); Manufacturer: Texas Instruments; PartNumber: TLV5614MPWREP; DAC Channels: 4; DNL(Max)(+/-LSB): 1; Interface: Serial SPI; Power Consumption(Typ)(mW): 3.6; Resolution(Bits): 12; Settling Time(us): 3; SFDR(dB): 70; SNR(dB): 74; SubFamily: Precision DAC (=<10MSPS); DatasheetVersion: SGLS355; PackageVersion: 4040064-4/G, 02/2011; PackageReference: PW16; PackageDescription: 16-Pin Plastic Small Outline, Body 5 x 4.4 mm, Pitch 0.65 mm; Supplier 1: Digi-Key; Supplier Part Number 1: 296-21258-2-ND; Supplier 2: Digi-Key; Supplier Part Number 2: 296-21258-1-ND; Supplier 3: Digi-Key; Supplier Part Number 3: 296-21258-6-ND; Supplier 4: Newark; Supplier Part Number 4: 46M0965; Supplier 5: Mouser; Supplier Part Number 5: 595-TLV5614MPWREP; Eco-Plan: Green (RoHS & no Sb/Br); INL(Max)(+/-LSB): 4; Mounting Technology: Surface Mount; Code_JEDEC: MO-153; ComponentLink1Description: Manufacturer URL; ComponentLink1URL: http://www.ti.com/; ComponentLink2Description: Datasheet; ComponentLink2URL: http://www.ti.com/general/docs/lit/getliterature.tsp?genericPartNumber=TLV5614-EP&fileType=pdf; ComponentLink3Description: Package Specification; ComponentLink3URL: http://www.ti.com/lit/ml/mpds361/mpds361.pdf
footprint TI-PW16_N (SOP, 16-Leads, Body 5x4.4mm, Pitch 0.65mm, IPC Medium Density)
footprint TI-PW16_L (SOP, 16-Leads, Body 5x4.4mm, Pitch 0.65mm, IPC High Density)
footprint TI-PW16_M (SOP, 16-Leads, Body 5x4.4mm, Pitch 0.65mm, IPC Low Density)
pins: 1 DVDD (power) "Digital supply", 2 ~{PD} (in) "Power-down pin. Powers down all DACs (overriding the individual power down settings), and all output stages. This terminal is active low.", 3 ~{LDAC} (in) "Load DAC. When the L\D\A\C\ signal is high, no DAC output updates occur when the input digital data is read into the serial interface. The DAC outputs are only updated when L\D\A\C\ is low.", 4 DIN (in) "Serial data input", 5 SCLK (in) "Serial clock inputinput", 6 ~{CS} (in) "Chip select. This terminal is active low.", 7 FS (in) "Frame sync input. The falling edge of the frame sync pulse indicates the start of a serial data frame shifted out to the TLV5614", 8 DGND (power) "Digital ground", 9 AGND (power) "Analog ground", 10 REFINCD (in) "Voltage reference input for DACs C and D.", 11 OUTD (out) "DACD output", 12 OUTC (out) "DACC output", 13 OUTB (out) "DACB output", 14 OUTA (out) "DACA output", 15 REFINAB (in) "Voltage reference input for DACs A and B.", 16 AVDD (power) "Analog supply"

## TLV5616CD
designator U?
12-Bit, 3 us DAC, Serial Input, Programmable Settling Time / Power Consumption, 0 to 70 degC, 8-pin SOIC (D8), Green (RoHS & no Sb/Br); Manufacturer: Texas Instruments; PartNumber: TLV5616CD; DAC Channels: 1; INL(Max)(+/-LSB): 4; Interface: Serial SPI; Power Consumption(Typ)(mW): 0.9; Resolution(Bits): 12; Settling Time(us): 3; SFDR(dB): 70; SNR(dB): 74; SubFamily: Precision DAC (=<10MSPS); DatasheetVersion: SLAS152D; PackageVersion: 4040047-3/M, 06/2011; PackageReference: D8; PackageDescription: 8-Pin Plastic Small Outline, Body 4.9 x 3.9 mm, Pitch 1.27 mm; Supplier 1: Digi-Key; Supplier Part Number 1: 296-2301-5-ND; Supplier 2: Newark; Supplier Part Number 2: 76C8904; Supplier 3: Mouser; Supplier Part Number 3: 595-TLV5616CD; DNL(Max)(+/-LSB): 1; Eco-Plan: Green (RoHS & no Sb/Br); Mounting Technology: Surface Mount; Code_JEDEC: MS-012; ComponentLink1Description: Manufacturer URL; ComponentLink1URL: http://www.ti.com/; ComponentLink2Description: Datasheet; ComponentLink2URL: http://www.ti.com/general/docs/lit/getliterature.tsp?genericPartNumber=TLV5616&fileType=pdf; ComponentLink3Description: Package Specification; ComponentLink3URL: http://www.ti.com/litv/pdf/msoi002j
footprint TI-D8_N (SOIC, 8-Leads, Body 4.9x3.9mm, Pitch 1.27mm, IPC Medium Density)
footprint TI-D8_L (SOIC, 8-Leads, Body 4.9x3.9mm, Pitch 1.27mm, IPC High Density)
footprint TI-D8_M (SOIC, 8-Leads, Body 4.9x3.9mm, Pitch 1.27mm, IPC Low Density)
pins: 1 DIN (in) "Serial digital data input", 2 SCLK (in) "Serial digital clock input", 3 ~{CS} (in) "Chip select. Digital input used to enable and disable inputs, active low.", 4 FS (in) "Frame sync. Digital input used for 4-wire serial interfaces such as the TMS320 DSP interface.", 5 AGND (power) "Analog ground", 6 REFIN (in) "Reference analog input voltage", 7 OUT (out) "DAC analog output", 8 VDD (power) "Positive power supply"

## TLV5616CDG4
designator U?
12-Bit, 3 us DAC, Serial Input, Programmable Settling Time / Power Consumption, 0 to 70 degC, 8-pin SOIC (D8), Green (RoHS & no Sb/Br); Manufacturer: Texas Instruments; PartNumber: TLV5616CDG4; DAC Channels: 1; INL(Max)(+/-LSB): 4; Interface: Serial SPI; Power Consumption(Typ)(mW): 0.9; Resolution(Bits): 12; Settling Time(us): 3; SFDR(dB): 70; SNR(dB): 74; SubFamily: Precision DAC (=<10MSPS); DatasheetVersion: SLAS152D; PackageVersion: 4040047-3/M, 06/2011; PackageReference: D8; PackageDescription: 8-Pin Plastic Small Outline, Body 4.9 x 3.9 mm, Pitch 1.27 mm; Supplier 1: Digi-Key; Supplier Part Number 1: TLV5616CDG4-ND; Supplier 2: Farnell; Supplier Part Number 2: 1234913; Supplier 3: Newark; Supplier Part Number 3: 13M3194; Supplier 4: Mouser; Supplier Part Number 4: 595-TLV5616CDG4; DNL(Max)(+/-LSB): 1; Eco-Plan: Green (RoHS & no Sb/Br); Mounting Technology: Surface Mount; Code_JEDEC: MS-012; ComponentLink1Description: Manufacturer URL; ComponentLink1URL: http://www.ti.com/; ComponentLink2Description: Datasheet; ComponentLink2URL: http://www.ti.com/general/docs/lit/getliterature.tsp?genericPartNumber=TLV5616&fileType=pdf; ComponentLink3Description: Package Specification; ComponentLink3URL: http://www.ti.com/litv/pdf/msoi002j
footprint TI-D8_N (SOIC, 8-Leads, Body 4.9x3.9mm, Pitch 1.27mm, IPC Medium Density)
footprint TI-D8_L (SOIC, 8-Leads, Body 4.9x3.9mm, Pitch 1.27mm, IPC High Density)
footprint TI-D8_M (SOIC, 8-Leads, Body 4.9x3.9mm, Pitch 1.27mm, IPC Low Density)
pins: 1 DIN (in) "Serial digital data input", 2 SCLK (in) "Serial digital clock input", 3 ~{CS} (in) "Chip select. Digital input used to enable and disable inputs, active low.", 4 FS (in) "Frame sync. Digital input used for 4-wire serial interfaces such as the TMS320 DSP interface.", 5 AGND (power) "Analog ground", 6 REFIN (in) "Reference analog input voltage", 7 OUT (out) "DAC analog output", 8 VDD (power) "Positive power supply"

## TLV5616CDGK
designator U?
12-Bit, 3 us DAC, Serial Input, Programmable Settling Time / Power Consumption, 0 to 70 degC, 8-pin SOP (DGK8), Green (RoHS & no Sb/Br); Manufacturer: Texas Instruments; PartNumber: TLV5616CDGK; DAC Channels: 1; INL(Max)(+/-LSB): 4; Interface: Serial SPI; Power Consumption(Typ)(mW): 0.9; Resolution(Bits): 12; Settling Time(us): 3; SFDR(dB): 70; SNR(dB): 74; SubFamily: Precision DAC (=<10MSPS); DatasheetVersion: SLAS152D; PackageVersion: 4073329/E, 05/2006; PackageReference: DGK8; PackageDescription: 8-Pin Thin Small Outline, Body 3 x 3 mm, Pitch 0.65 mm; Supplier 1: Digi-Key; Supplier Part Number 1: TLV5616CDGK-ND; Supplier 2: Newark; Supplier Part Number 2: 76C8905; Supplier 3: Mouser; Supplier Part Number 3: 595-TLV5616CDGK; DNL(Max)(+/-LSB): 1; Eco-Plan: Green (RoHS & no Sb/Br); Mounting Technology: Surface Mount; Code_JEDEC: MO-187; ComponentLink1Description: Manufacturer URL; ComponentLink1URL: http://www.ti.com/; ComponentLink2Description: Datasheet; ComponentLink2URL: http://www.ti.com/general/docs/lit/getliterature.tsp?genericPartNumber=TLV5616&fileType=pdf; ComponentLink3Description: Package Specification; ComponentLink3URL: http://www.ti.com/litv/pdf/mpds028d
footprint TI-DGK8_N (SOP, 8-Leads, Body 3x3mm, Pitch 0.65mm, IPC Medium Density)
footprint TI-DGK8_L (SOP, 8-Leads, Body 3x3mm, Pitch 0.65mm, IPC High Density)
footprint TI-DGK8_M (SOP, 8-Leads, Body 3x3mm, Pitch 0.65mm, IPC Low Density)
pins: 1 DIN (in) "Serial digital data input", 2 SCLK (in) "Serial digital clock input", 3 ~{CS} (in) "Chip select. Digital input used to enable and disable inputs, active low.", 4 FS (in) "Frame sync. Digital input used for 4-wire serial interfaces such as the TMS320 DSP interface.", 5 AGND (power) "Analog ground", 6 REFIN (in) "Reference analog input voltage", 7 OUT (out) "DAC analog output", 8 VDD (power) "Positive power supply"

## TLV5616CDGKG4
designator U?
12-Bit, 3 us DAC, Serial Input, Programmable Settling Time / Power Consumption, 0 to 70 degC, 8-pin SOP (DGK8), Green (RoHS & no Sb/Br); Manufacturer: Texas Instruments; PartNumber: TLV5616CDGKG4; DAC Channels: 1; INL(Max)(+/-LSB): 4; Interface: Serial SPI; Power Consumption(Typ)(mW): 0.9; Resolution(Bits): 12; Settling Time(us): 3; SFDR(dB): 70; SNR(dB): 74; SubFamily: Precision DAC (=<10MSPS); DatasheetVersion: SLAS152D; PackageVersion: 4073329/E, 05/2006; PackageReference: DGK8; PackageDescription: 8-Pin Thin Small Outline, Body 3 x 3 mm, Pitch 0.65 mm; Supplier 1: Digi-Key; Supplier Part Number 1: TLV5616CDGKG4-ND; Supplier 2: Mouser; Supplier Part Number 2: 595-TLV5616CDGKG4; DNL(Max)(+/-LSB): 1; Eco-Plan: Green (RoHS & no Sb/Br); Mounting Technology: Surface Mount; Code_JEDEC: MO-187; ComponentLink1Description: Manufacturer URL; ComponentLink1URL: http://www.ti.com/; ComponentLink2Description: Datasheet; ComponentLink2URL: http://www.ti.com/general/docs/lit/getliterature.tsp?genericPartNumber=TLV5616&fileType=pdf; ComponentLink3Description: Package Specification; ComponentLink3URL: http://www.ti.com/litv/pdf/mpds028d
footprint TI-DGK8_N (SOP, 8-Leads, Body 3x3mm, Pitch 0.65mm, IPC Medium Density)
footprint TI-DGK8_L (SOP, 8-Leads, Body 3x3mm, Pitch 0.65mm, IPC High Density)
footprint TI-DGK8_M (SOP, 8-Leads, Body 3x3mm, Pitch 0.65mm, IPC Low Density)
pins: 1 DIN (in) "Serial digital data input", 2 SCLK (in) "Serial digital clock input", 3 ~{CS} (in) "Chip select. Digital input used to enable and disable inputs, active low.", 4 FS (in) "Frame sync. Digital input used for 4-wire serial interfaces such as the TMS320 DSP interface.", 5 AGND (power) "Analog ground", 6 REFIN (in) "Reference analog input voltage", 7 OUT (out) "DAC analog output", 8 VDD (power) "Positive power supply"

## TLV5616CDR
designator U?
12-Bit, 3 us DAC, Serial Input, Programmable Settling Time / Power Consumption, 0 to 70 degC, 8-pin SOIC (D8), Green (RoHS & no Sb/Br); Manufacturer: Texas Instruments; PartNumber: TLV5616CDR; DAC Channels: 1; INL(Max)(+/-LSB): 4; Interface: Serial SPI; Power Consumption(Typ)(mW): 0.9; Resolution(Bits): 12; Settling Time(us): 3; SFDR(dB): 70; SNR(dB): 74; SubFamily: Precision DAC (=<10MSPS); DatasheetVersion: SLAS152D; PackageVersion: 4040047-3/M, 06/2011; PackageReference: D8; PackageDescription: 8-Pin Plastic Small Outline, Body 4.9 x 3.9 mm, Pitch 1.27 mm; Supplier 1: Digi-Key; Supplier Part Number 1: 296-2301-2-ND; Supplier 2: Digi-Key; Supplier Part Number 2: 296-2301-1-ND; Supplier 3: Digi-Key; Supplier Part Number 3: 296-2301-6-ND; Supplier 4: Mouser; Supplier Part Number 4: 595-TLV5616CDR; DNL(Max)(+/-LSB): 1; Eco-Plan: Green (RoHS & no Sb/Br); Mounting Technology: Surface Mount; Code_JEDEC: MS-012; ComponentLink1Description: Manufacturer URL; ComponentLink1URL: http://www.ti.com/; ComponentLink2Description: Datasheet; ComponentLink2URL: http://www.ti.com/general/docs/lit/getliterature.tsp?genericPartNumber=TLV5616&fileType=pdf; ComponentLink3Description: Package Specification; ComponentLink3URL: http://www.ti.com/litv/pdf/msoi002j
footprint TI-D8_N (SOIC, 8-Leads, Body 4.9x3.9mm, Pitch 1.27mm, IPC Medium Density)
footprint TI-D8_L (SOIC, 8-Leads, Body 4.9x3.9mm, Pitch 1.27mm, IPC High Density)
footprint TI-D8_M (SOIC, 8-Leads, Body 4.9x3.9mm, Pitch 1.27mm, IPC Low Density)
pins: 1 DIN (in) "Serial digital data input", 2 SCLK (in) "Serial digital clock input", 3 ~{CS} (in) "Chip select. Digital input used to enable and disable inputs, active low.", 4 FS (in) "Frame sync. Digital input used for 4-wire serial interfaces such as the TMS320 DSP interface.", 5 AGND (power) "Analog ground", 6 REFIN (in) "Reference analog input voltage", 7 OUT (out) "DAC analog output", 8 VDD (power) "Positive power supply"

## TLV5616CDRG4
designator U?
12-Bit, 3 us DAC, Serial Input, Programmable Settling Time / Power Consumption, 0 to 70 degC, 8-pin SOIC (D8), Green (RoHS & no Sb/Br); Manufacturer: Texas Instruments; PartNumber: TLV5616CDRG4; DAC Channels: 1; INL(Max)(+/-LSB): 4; Interface: Serial SPI; Power Consumption(Typ)(mW): 0.9; Resolution(Bits): 12; Settling Time(us): 3; SFDR(dB): 70; SNR(dB): 74; SubFamily: Precision DAC (=<10MSPS); DatasheetVersion: SLAS152D; PackageVersion: 4040047-3/M, 06/2011; PackageReference: D8; PackageDescription: 8-Pin Plastic Small Outline, Body 4.9 x 3.9 mm, Pitch 1.27 mm; Supplier 1: Digi-Key; Supplier Part Number 1: TLV5616CDRG4-ND; Supplier 2: Mouser; Supplier Part Number 2: 595-TLV5616CDRG4; DNL(Max)(+/-LSB): 1; Eco-Plan: Green (RoHS & no Sb/Br); Mounting Technology: Surface Mount; Code_JEDEC: MS-012; ComponentLink1Description: Manufacturer URL; ComponentLink1URL: http://www.ti.com/; ComponentLink2Description: Datasheet; ComponentLink2URL: http://www.ti.com/general/docs/lit/getliterature.tsp?genericPartNumber=TLV5616&fileType=pdf; ComponentLink3Description: Package Specification; ComponentLink3URL: http://www.ti.com/litv/pdf/msoi002j
footprint TI-D8_N (SOIC, 8-Leads, Body 4.9x3.9mm, Pitch 1.27mm, IPC Medium Density)
footprint TI-D8_L (SOIC, 8-Leads, Body 4.9x3.9mm, Pitch 1.27mm, IPC High Density)
footprint TI-D8_M (SOIC, 8-Leads, Body 4.9x3.9mm, Pitch 1.27mm, IPC Low Density)
pins: 1 DIN (in) "Serial digital data input", 2 SCLK (in) "Serial digital clock input", 3 ~{CS} (in) "Chip select. Digital input used to enable and disable inputs, active low.", 4 FS (in) "Frame sync. Digital input used for 4-wire serial interfaces such as the TMS320 DSP interface.", 5 AGND (power) "Analog ground", 6 REFIN (in) "Reference analog input voltage", 7 OUT (out) "DAC analog output", 8 VDD (power) "Positive power supply"